# Altium footprint library A 按钮开关及附件.PcbLib: 31 footprints (part 2 of 2)
Each footprint in its own frame and in the unit in brackets; x right, y up, seen from the top. Pads: shape width x height; smd on the part's side, far side on the other; paste and mask are expansions set on the pad; w line width, h text height; cw(c..) or ccw(c..) is an arc to the next point about the centre after c.
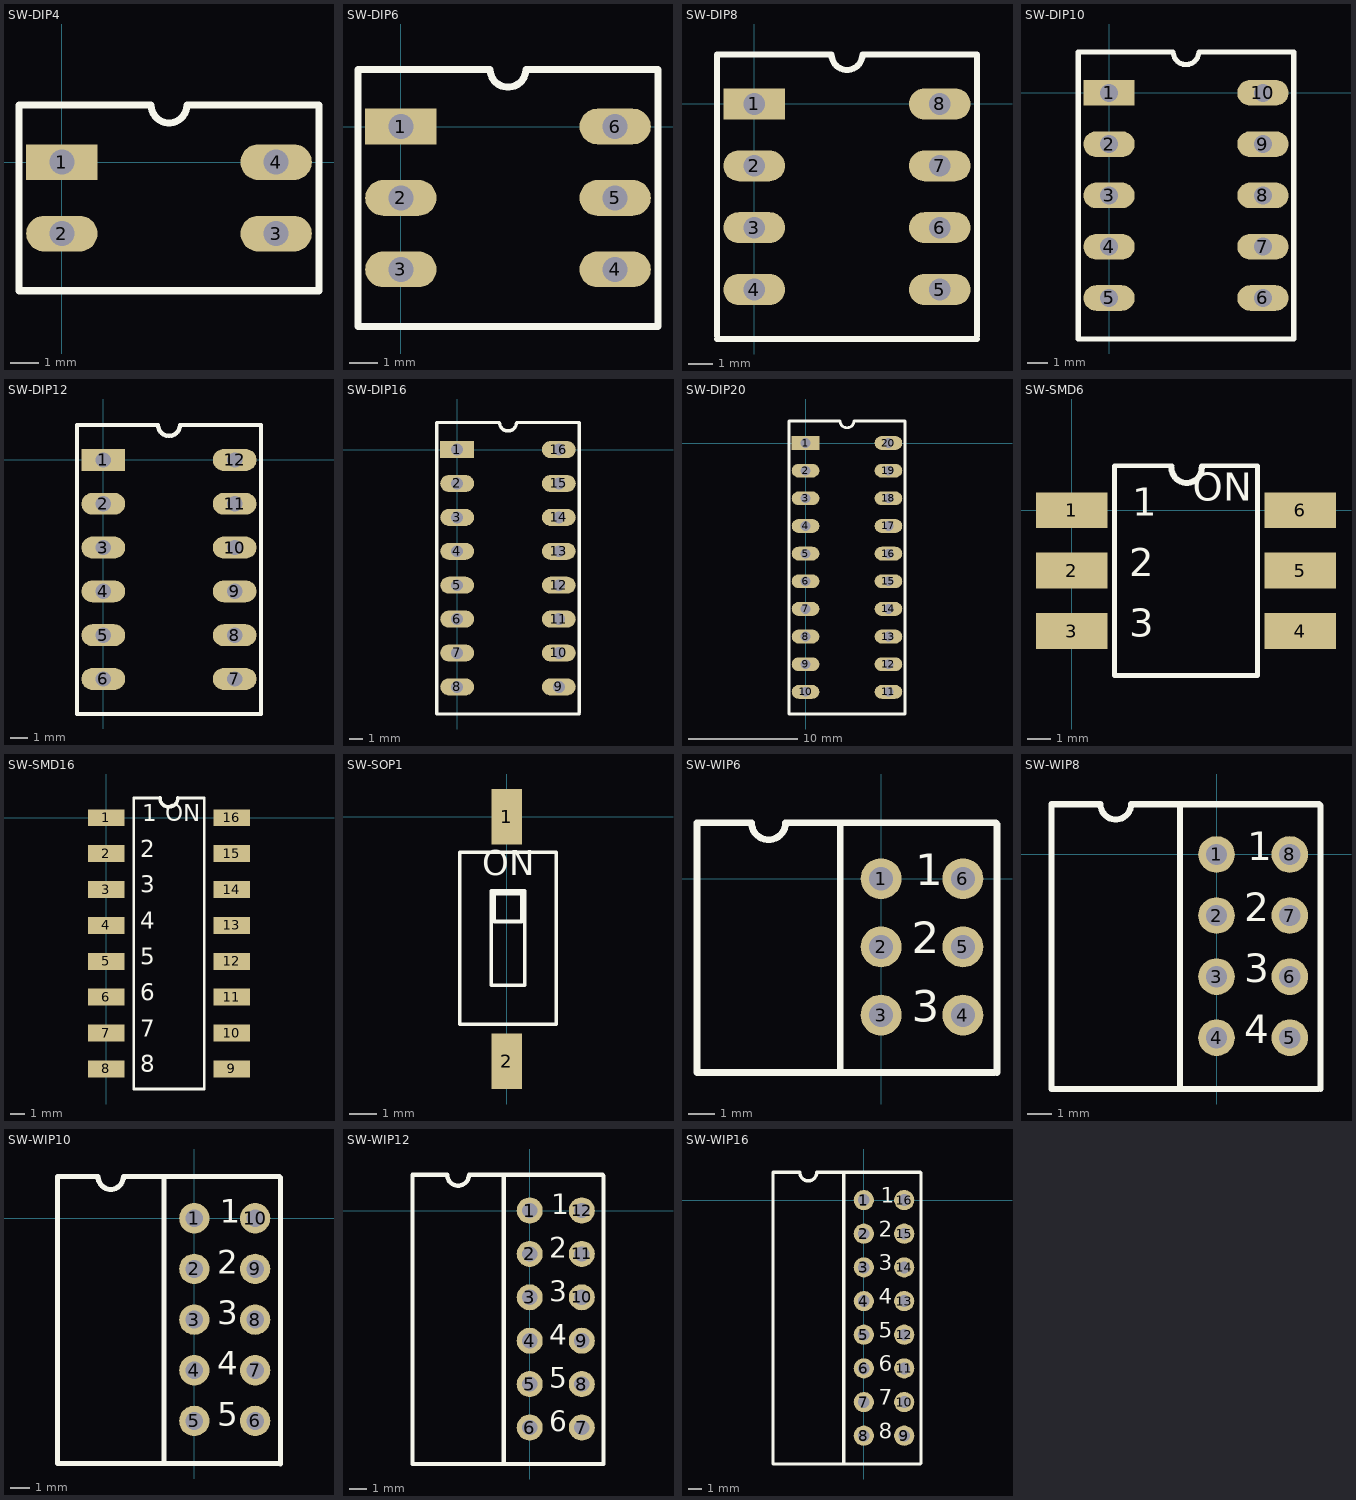
[diagram p1: the footprints below, top view; thin cyan lines are the x and y axes]

## SW-DIP4 [mil] "拨动开关,2位"
height 196.85
pads (4):
  rect 100x50 hole 35: 1(0,0)
  oval 100x50 hole 35: 2(0,-100) 3(300,-100) 4(300,0)
Top Overlay:
  lines w10: -60,-180 -60,80 125,80 ccw(c150,80) 175,80 360,80 360,-180 -60,-180

## SW-DIP6 [mil] "拨动开关，3位"
height 196.85
pads (6):
  rect 100x50 hole 35: 1(0,0)
  oval 100x50 hole 35: 2(0,-100) 3(0,-200) 4(300,-200) 5(300,-100) 6(300,0)
Top Overlay:
  lines w10: -60,-280 -60,80 125,80 ccw(c150,80) 175,80 360,80 360,-280 -60,-280

## SW-DIP8 [mil] "拨动开关，4位"
height 196.85
pads (8):
  rect 100x50 hole 35: 1(0,0)
  oval 100x50 hole 35: 2(0,-100) 3(0,-200) 4(0,-300) 5(300,-300) 6(300,-200) 7(300,-100) 8(300,0)
Top Overlay:
  lines w10: -60,-380 360,-380 ; -60,-375 -60,80 125,80 ccw(c150,80) 175,80 360,80 360,-375

## SW-DIP10 [mil] "拨动开关，5位"
height 196.85
pads (10):
  rect 100x50 hole 35: 1(0,0)
  oval 100x50 hole 35: 2(0,-100) 3(0,-200) 4(0,-300) 5(0,-400) 6(300,-400) 7(300,-300) 8(300,-200) 9(300,-100) 10(300,0)
Top Overlay:
  lines w10: -60,-480 -60,80 125,80 ccw(c150,80) 175,80 360,80 360,-480 -60,-480

## SW-DIP12 [mil] "拨动开关，6位"
height 196.85
pads (12):
  rect 100x50 hole 35: 1(0,0)
  oval 100x50 hole 35: 2(0,-100) 3(0,-200) 4(0,-300) 5(0,-400) 6(0,-500) 7(300,-500) 8(300,-400) 9(300,-300) 10(300,-200) 11(300,-100) 12(300,0)
Top Overlay:
  lines w10: -60,-580 -60,80 125,80 ccw(c150,80) 175,80 360,80 360,-580 -60,-580

## SW-DIP16 [mil] "拨动开关，8位"
height 196.85
pads (16):
  rect 100x50 hole 35: 1(0,0)
  oval 100x50 hole 35: 2(0,-100) 3(0,-200) 4(0,-300) 5(0,-400) 6(0,-500) 7(0,-600) 8(0,-700) 9(300,-700) 10(300,-600) 11(300,-500) 12(300,-400) 13(300,-300) 14(300,-200) 15(300,-100) 16(300,0)
Top Overlay:
  lines w10: 360,-780 -60,-780 -60,80 125,80 ccw(c150,80) 175,80 360,80 360,-775

## SW-DIP20 [mil] "拨动开关，10位"
height 196.85
pads (20):
  rect 100x50 hole 35: 1(0,0)
  oval 100x50 hole 35: 2(0,-100) 3(0,-200) 4(0,-300) 5(0,-400) 6(0,-500) 7(0,-600) 8(0,-700) 9(0,-800) 10(0,-900) 11(300,-900) 12(300,-800) 13(300,-700) 14(300,-600) 15(300,-500) 16(300,-400) 17(300,-300) 18(300,-200) 19(300,-100) 20(300,0)
Top Overlay:
  lines w10: -60,-980 -60,80 125,80 ccw(c150,80) 175,80 360,80 360,-980 -60,-980

## SW-SMD6 [mm] "贴片,3位拨码"
height 8
pads (6):
  rect 3x1.5 smd: 1(0,0) 2(0,-2.54) 3(0,-5.08) 4(9.6,-5.08) 5(9.6,-2.54) 6(9.6,0)
Top Overlay:
  lines w0.203: 4.21,1.86 1.8,1.86 1.8,-6.94 7.8,-6.94 7.8,1.86 5.45,1.86
  lines w0.254: 4.191,1.778 ccw(c4.826,1.778) 5.461,1.778
  text "1" at 2.54,-0.635 h2.03
  text "ON" at 5.08,0 h2.03
  text "2" at 2.413,-3.175 h2.03
  text "3" at 2.413,-5.715 h2.03

## SW-SMD16 [mm] "贴片，8位拨码"
height 5.06
pads (16):
  rect 2.6x1.2 smd: 1(0,0) 2(0,-2.54) 3(0,-5.08) 4(0,-7.62) 5(0,-10.16) 6(0,-12.7) 7(0,-15.24) 8(0,-17.78) 9(8.9,-17.78) 10(8.9,-15.24) 11(8.9,-12.7) 12(8.9,-10.16) 13(8.9,-7.62) 14(8.9,-5.08) 15(8.9,-2.54) 16(8.9,0)
Top Overlay:
  lines w0.2: 3.75,1.4 1.95,1.4 1.95,-19.2 6.95,-19.2 6.95,1.4 ; 5.125,1.4 6.925,1.4
  lines w0.254: 3.81,1.4 ccw(c4.445,1.4) 5.08,1.4
  text "ON" at 4.191,-0.635 h2.03
  text "1" at 2.54,-0.635 h2.03
  text "2" at 2.413,-3.175 h2.03
  text "3" at 2.413,-5.715 h2.03
  text "4" at 2.413,-8.255 h2.03
  text "5" at 2.413,-10.795 h2.03
  text "6" at 2.413,-13.335 h2.03
  text "7" at 2.413,-15.875 h2.03
  text "8" at 2.413,-18.415 h2.03

## SW-SOP1 [mm]
pads (2):
  rect 1.1x2 smd: 1(0.004,0.004) 2(0.004,-8.796)
Top Overlay:
  lines w0.127: -1.698,-7.466 1.782,-7.466 1.782,-1.266 -1.698,-1.266 -1.698,-7.466 ; -0.558,-6.066 -0.558,-2.666 0.642,-2.666 0.642,-6.066 -0.558,-6.066 ; -0.458,-3.766 -0.458,-2.766 0.542,-2.766 0.542,-3.766 -0.458,-3.766
  text "ON" at -0.889,-2.413 h1.52

## SW-WIP6 [mil] "弯的，3位拨码"
height 393.7
pads (6):
  round 60 hole 35: 1(0,0) 2(0,-100) 3(0,-200) 4(120,-200) 5(120,-100) 6(120,0)
Top Overlay:
  lines w10: 166,-284 -60,-284 ; 170,-284 170,80 167.86,82.14 -60,82.14 ; -60,-284 -270,-284 -270,82.14 -190,82.14 ccw(c-165,82.14) -140,82.14 -60,82.14 ; -60,-284 -60,82.14
  text "1" at 50,-25 h80
  text "2" at 45,-125 h80
  text "3" at 45,-225 h80

## SW-WIP8 [mil] "弯的，4位拨码"
height 393.7
pads (8):
  round 60 hole 35: 1(0,0) 2(0,-100) 3(0,-200) 4(0,-300) 5(120,-300) 6(120,-200) 7(120,-100) 8(120,0)
Top Overlay:
  lines w10: 166,-384 -60,-384 ; 170,-384 170,80 167.86,82.14 -60,82.14 ; -60,-384 -60,82.14 ; -60,-384 -270,-384 -270,82.14 -190,82.14 ccw(c-165,82.14) -140,82.14 -60,82.14
  text "4" at 45,-325 h80
  text "3" at 45,-225 h80
  text "2" at 45,-125 h80
  text "1" at 50,-25 h80

## SW-WIP10 [mil] "弯的，5位拨码"
height 393.7
pads (10):
  round 60 hole 35: 1(0,0) 2(0,-100) 3(0,-200) 4(0,-300) 5(0,-400) 6(120,-400) 7(120,-300) 8(120,-200) 9(120,-100) 10(120,0)
Top Overlay:
  lines w10: 166,-484 -60,-484 ; -60,-484 -60,82.14 ; -60,-484 -270,-484 -270,82.14 -190,82.14 ccw(c-165,82.14) -140,82.14 -60,82.14 ; -60,82.14 167.86,82.14 170,80 ; 170,80 170,-485 170,80
  text "5" at 45,-425 h80
  text "4" at 45,-325 h80
  text "3" at 45,-225 h80
  text "2" at 45,-125 h80
  text "1" at 50,-25 h80

## SW-WIP12 [mil] "弯的，6位拨码"
height 393.7
pads (12):
  round 60 hole 35: 1(0,0) 2(0,-100) 3(0,-200) 4(0,-300) 5(0,-400) 6(0,-500) 7(120,-500) 8(120,-400) 9(120,-300) 10(120,-200) 11(120,-100) 12(120,0)
Top Overlay:
  lines w10: 166,-584 -60,-584 ; 170,-584 170,80 167.86,82.14 -60,82.14 ; -60,-584 -60,82.14 ; -60,-584 -270,-584 -270,82.14 -190,82.14 ccw(c-165,82.14) -140,82.14 -60,82.14
  text "1" at 50,-25 h80
  text "2" at 45,-125 h80
  text "3" at 45,-225 h80
  text "4" at 45,-325 h80
  text "5" at 45,-425 h80
  text "6" at 45,-525 h80

## SW-WIP16 [mil] "弯的，8位拨码"
height 393.7
pads (16):
  round 60 hole 35: 1(0,0) 2(0,-100) 3(0,-200) 4(0,-300) 5(0,-400) 6(0,-500) 7(0,-600) 8(0,-700) 9(120,-700) 10(120,-600) 11(120,-500) 12(120,-400) 13(120,-300) 14(120,-200) 15(120,-100) 16(120,0)
Top Overlay:
  lines w10: -60,-784 166,-784 170,-780 170,80 167.86,82.14 -60,82.14 ; -60,-784 -270,-784 -270,82.14 -190,82.14 ccw(c-165,82.14) -140,82.14 -60,82.14 ; -60,-784 -60,82.14
  text "8" at 45,-725 h80
  text "7" at 45,-625 h80
  text "6" at 45,-525 h80
  text "5" at 45,-425 h80
  text "4" at 45,-325 h80
  text "3" at 45,-225 h80
  text "2" at 45,-125 h80
  text "1" at 50,-25 h80